# EAGLE library part 743-8 (library resistor-array)
CTS 743 Series 8 Terminations, 4 Resistors
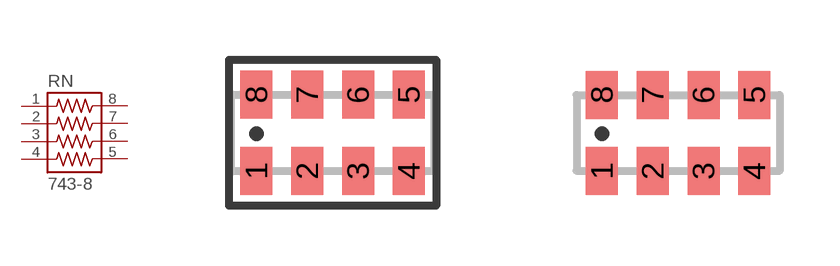
[diagram p3: symbol with the pads of 743-8; footprints 743-8, 743-8NS]

Designator prefix RN

## 743-8  [743-8]
1  1  pas
2  2  pas
3  3  pas
4  4  pas
5  5  pas
6  6  pas
7  7  pas
8  8  pas

## 743-8NS  [743-8NS]
Pads as for 743-8

## Footprint 743-8 (pad centres in mm)
CTS 744 Series 8 Terminations, 4 Resistors
smd 0.8 x 1.2: 1 -1.905,-0.953; 2 -0.635,-0.953; 3 0.635,-0.953; 4 1.905,-0.953; 5 1.905,0.953; 6 0.635,0.953; 7 -0.635,0.953; 8 -1.905,0.953

## Footprint 743-8NS (pad centres in mm)
CTS 744 Series 8 Terminations, 4 Resistors
smd 0.8 x 1.2: 1 -1.905,-0.953; 2 -0.635,-0.953; 3 0.635,-0.953; 4 1.905,-0.953; 5 1.905,0.953; 6 0.635,0.953; 7 -0.635,0.953; 8 -1.905,0.953